# Altium footprint library Diodes_imp.PcbLib: 57 footprints (part 3 of 4)
Each footprint in its own frame and in the unit in brackets; x right, y up, seen from the top. Pads: shape width x height; smd on the part's side, far side on the other; paste and mask are expansions set on the pad; w line width, h text height; cw(c..) or ccw(c..) is an arc to the next point about the centre after c.
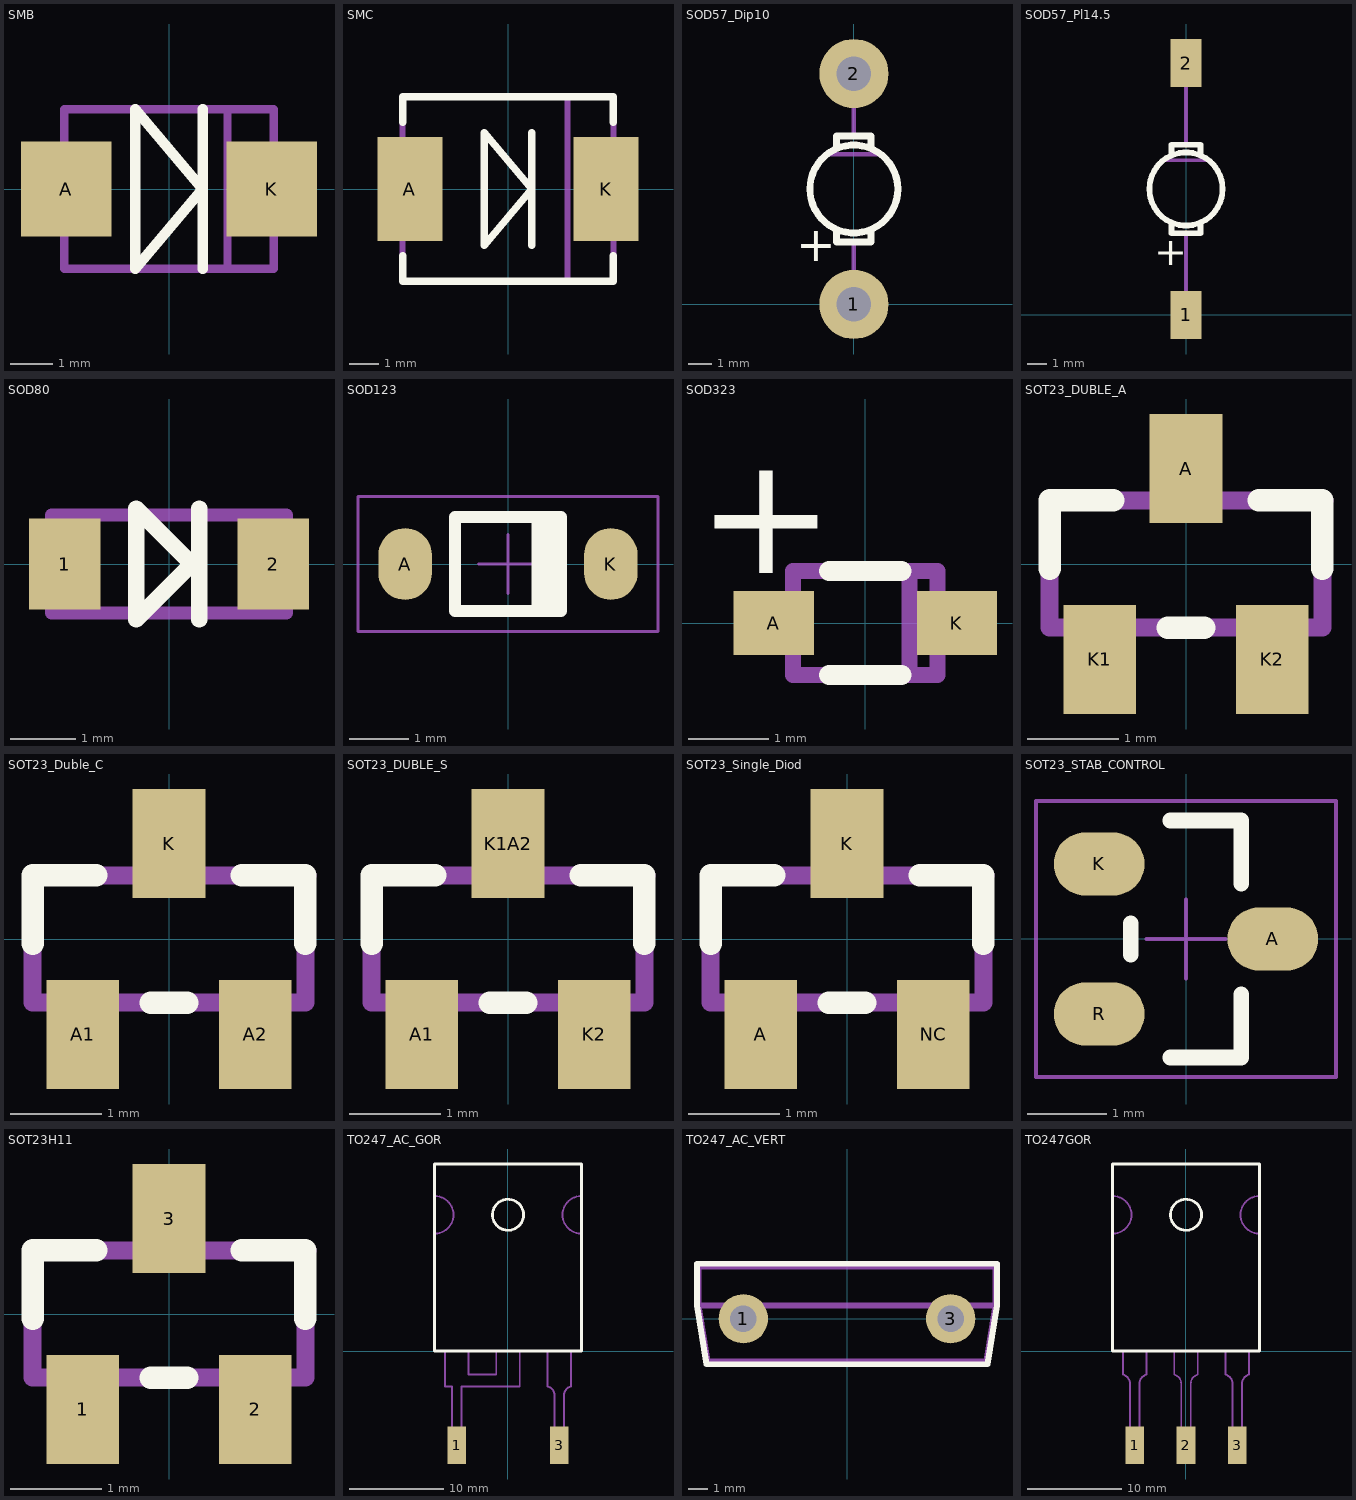
[diagram p2: the footprints below, top view; thin cyan lines are the x and y axes]

## SMB [mm]
height 2.44
pads (2):
  rect 2.16x2.26 smd: A(-2.45,0) K(2.45,0)
Top Overlay:
  lines w0.25: 0.8,-1.9 0.8,1.9 ; -0.8,-1.9 0.8,0 -0.8,1.9 -0.8,-1.9
Mechanical 1:
  lines w0.2: -2.5,-1.016 -3,-1.016 -3,1.016 -2.5,1.016 ; 1.397,-1.778 1.397,1.778 ; 2.5,-1.016 3,-1.016 3,1.016 2.5,1.016 ; -2.5,-1.9 2.5,-1.9 2.5,1.9 -2.5,1.9 -2.5,-1.9
  text "+" at -1.238,0.008 h1.5
  text ".Designator" at -0.248,2.928 h1.5
3D body "SMB.stp": height 2.4, standoff 0, extent -3,-1.9 3,1.91

## SMC [mm]
height 2.62
pads (2):
  rect 2.2x3.5 smd: A(-3.3,0) K(3.3,0)
Top Overlay:
  lines w0.25: -3.55,-2.25 -3.55,-3.1 3.55,-3.1 3.55,-2.25 ; -3.55,2.25 -3.55,3.1 3.55,3.1 3.55,2.25 ; 0.8,-1.9 0.8,1.9 ; -0.8,-1.9 -0.8,1.9 0.8,0 -0.8,-1.9
Mechanical 1:
  lines w0.2: -3.55,-1.55 -4.05,-1.55 -4.05,1.55 -3.55,1.55 ; 1.996,3.1 2,-3.1 ; 3.55,-1.55 4.05,-1.55 4.05,1.55 3.55,1.55 ; -3.55,-3.1 -3.55,3.1 3.55,3.1 3.55,-3.1 -3.55,-3.1
  text ".Designator" at -0.748,0.128 h1.5
  text "+" at -1.988,0.008 h1.5
3D body "SMC.stp": height 2.62, standoff 0, extent -4.05,-3.1 4.08,3.12

## SOD57_Dip10 [mm]
height 3.81
pads (2):
  round 3 hole 1.5: 1(0,0) 2(0,10)
Top Overlay:
  circle w0.3: c0,5 r1.905
  lines w0.3: -0.75,3.25 -0.75,2.7 0.75,2.7 0.75,3.25 ; -0.75,6.75 -0.75,7.3 0.75,7.3 0.75,6.75
  text "+" at -2.5,1.875 h1.5
Mechanical 1:
  circle w0.2: c0,5 r1.905
  lines w0.2: -1.15,6.5 1.15,6.5 ; -0.75,3.25 -0.75,2.7 0.75,2.7 0.75,3.25 ; -0.75,6.75 -0.75,7.3 0.75,7.3 0.75,6.75 ; 0,0 0,2.7 ; 0,7.3 0,10
  text "+" at -0.3,3.35 h1.5
  text ".Designator" at -2.4,3.25 h1.5
3D body "SOD57_Dip10.stp": height 3.81, standoff -3, extent -1.905,-0.404 1.89,10.404

## SOD57_Pl14.5 [mm]
height 3.81
pads (2):
  rect 1.6x2.5 smd: 1(0,0) 2(0,13.125)
Top Overlay:
  circle w0.3: c0,6.562 r1.905
  lines w0.3: -0.75,4.812 -0.75,4.262 0.75,4.262 0.75,4.812 ; -0.75,8.312 -0.75,8.862 0.75,8.862 0.75,8.312
  text "+" at -1.65,2.587 h1.5
Mechanical 1:
  circle w0.2: c0,6.562 r1.905
  lines w0.2: -1.15,8.062 1.15,8.062 ; -0.75,4.812 -0.75,4.262 0.75,4.262 0.75,4.812 ; -0.75,8.312 -0.75,8.862 0.75,8.862 0.75,8.312 ; 0,-0.688 0,4.312 ; 0,8.812 0,13.812
  text "+" at -0.3,4.912 h1.5
  text ".Designator" at -2.65,4.462 h1.5
3D body "SOD57_Pl14.5.stp": height 3.81, standoff 0, extent -1.895,-0.688 1.9,13.812

## SOD80 [mm]
height 1.5
pads (2):
  rect 1.1x1.4 smd: 1(-1.6,0) 2(1.6,0)
Top Overlay:
  lines w0.25: 0.462,-0.85 0.462,0.85 ; 0.35,0 0.45,0 0.35,0 ; 0.35,0 -0.5,0.85 -0.5,-0.85 0.35,0
Mechanical 1:
  lines w0.2: -1.8,-0.75 1.8,-0.75 1.8,0.75 -1.8,0.75 -1.8,-0.75
  text "+" at -1.4,-0.5 h1.5
  text ".Designator" at -1,1.6 h1.5
3D body "SOD80.stp": height 1.5, standoff 0, extent -1.8,-0.75 1.8,0.747

## SOD123 [mm]
height 1
pads (2):
  oval 0.91x1.22 smd mask+0.1: A(-1.75,0) K(1.75,0)
Top Overlay:
  rectangle: 0.4,-0.8 0.9,0.8
  lines w0.2: -0.9,-0.8 0.9,-0.8 0.9,0.8 -0.9,0.8 -0.9,-0.8
Mechanical 15:
  lines w0.05: -0.5,0 0.5,0 ; 0,-0.5 0,0.5 ; -2.55,-1.15 -2.55,1.15 2.55,1.15 2.55,-1.15 -2.55,-1.15
3D body "SOD123.STEP": height 1.19, standoff 0.02, extent -1.949,-0.9 1.949,0.9

## SOD323 [mm]
height 1.1
pads (2):
  rect 1x0.8 smd: A(-1.143,0) K(1.143,0)
Top Overlay:
  lines w0.25: -0.45,-0.65 0.45,-0.65 ; -0.45,0.65 0.45,0.65
  text "+" at -2.1,0.625 h1.5
Mechanical 1:
  lines w0.2: -0.9,-0.2 -1.35,-0.2 -1.35,0.2 -0.9,0.2 ; 0.55,-0.65 0.55,0.65 ; 0.905,-0.2 1.35,-0.2 1.35,0.2 0.905,0.2 ; -0.9,-0.65 0.9,-0.65 0.9,0.65 -0.9,0.65 -0.9,-0.65
  text "+" at -1.8,0.563 h1.5
3D body "SOD323.stp": height 1.1, standoff 0, extent -1.35,-0.675 1.35,0.675

## SOT23_DUBLE_A [mm]
height 1.1
pads (3):
  rect 0.8x1.2 smd: A(0,1.05) K1(-0.95,-1.05) K2(0.95,-1.05)
Top Overlay:
  lines w0.25: -1.5,-0.05 -1.5,0.7 -0.8,0.7 ; -0.2,-0.7 0.2,-0.7 ; 0.8,0.7 1.5,0.7 1.5,-0.05
Mechanical 1:
  lines w0.2: -0.95,-1.3 -0.95,-0.7 ; 0.02,0.7 0.02,1.3 ; 0.95,-1.3 0.95,-0.7 ; 1.5,0.7 1.5,-0.7 -1.5,-0.7 -1.5,0.7 1.52,0.7
  text "2" at 1.7,-1.5 h1.5
  text "1" at -2.1,-1.6 h1.5
  text "3" at -1.2,1 h1.5
  text ".Designator" at -0.448,2.278 h1.5
3D body "SOT23h11.stp": height 1.1, standoff 0, extent -1.48,-1.25 1.52,1.25

## SOT23_Duble_C [mm]
height 1.1
pads (3):
  rect 0.8x1.2 smd: A1(-0.95,-1.05) A2(0.95,-1.05) K(0,1.05)
Top Overlay:
  lines w0.25: -1.5,-0.05 -1.5,0.7 -0.8,0.7 ; -0.2,-0.7 0.2,-0.7 ; 0.8,0.7 1.5,0.7 1.5,-0.05
Mechanical 1:
  lines w0.2: -0.95,-1.3 -0.95,-0.7 ; 0.02,0.7 0.02,1.3 ; 0.95,-1.3 0.95,-0.7 ; 1.5,0.7 1.5,-0.7 -1.5,-0.7 -1.5,0.7 1.52,0.7
  text "2" at 1.7,-1.5 h1.5
  text "1" at -2.1,-1.6 h1.5
  text "3" at -1.2,1 h1.5
  text ".Designator" at -0.448,2.278 h1.5
3D body "SOT23h11.stp": height 1.1, standoff 0, extent -1.48,-1.25 1.52,1.25

## SOT23_DUBLE_S [mm]
height 1.1
pads (3):
  rect 0.8x1.2 smd: A1(-0.95,-1.05) K1A2(0,1.05) K2(0.95,-1.05)
Top Overlay:
  lines w0.25: -1.5,-0.05 -1.5,0.7 -0.8,0.7 ; -0.2,-0.7 0.2,-0.7 ; 0.8,0.7 1.5,0.7 1.5,-0.05
Mechanical 1:
  lines w0.2: -0.95,-1.3 -0.95,-0.7 ; 0.02,0.7 0.02,1.3 ; 0.95,-1.3 0.95,-0.7 ; 1.5,0.7 1.5,-0.7 -1.5,-0.7 -1.5,0.7 1.52,0.7
  text ".Designator" at -0.448,2.278 h1.5
  text "3" at -1.2,1 h1.5
  text "1" at -2.1,-1.6 h1.5
  text "2" at 1.7,-1.5 h1.5
3D body "SOT23h11.stp": height 1.1, standoff 0, extent -1.48,-1.25 1.52,1.25

## SOT23_Single_Diod [mm]
height 1.1
pads (3):
  rect 0.8x1.2 smd: A(-0.95,-1.05) K(0,1.05) NC(0.95,-1.05)
Top Overlay:
  lines w0.25: -1.5,-0.05 -1.5,0.7 -0.8,0.7 ; -0.2,-0.7 0.2,-0.7 ; 0.8,0.7 1.5,0.7 1.5,-0.05
Mechanical 1:
  lines w0.2: -0.95,-1.3 -0.95,-0.7 ; 0.02,0.7 0.02,1.3 ; 0.95,-1.3 0.95,-0.7 ; 1.5,0.7 1.5,-0.7 -1.5,-0.7 -1.5,0.7 1.52,0.7
  text "2" at 1.7,-1.5 h1.5
  text "1" at -2.1,-1.6 h1.5
  text "3" at -1.2,1 h1.5
  text ".Designator" at -0.448,2.278 h1.5
3D body "SOT23h11.stp": height 1.1, standoff 0, extent -1.48,-1.25 1.52,1.25

## SOT23_STAB_CONTROL [mm]
pads (3):
  oval 1.15x0.8 smd mask+0.1: A(1.1,0) K(-1.1,0.95) R(-1.1,-0.95)
Top Overlay:
  lines w0.2: -0.7,-0.2 -0.7,0.2 ; -0.2,-1.5 0.7,-1.5 0.7,-0.7 ; -0.2,1.5 0.7,1.5 0.7,0.7
Mechanical 15:
  lines w0.05: -0.5,0 0.5,0 ; 0,-0.5 0,0.5 ; -1.9,-1.75 -1.9,1.75 1.9,1.75 1.9,-1.75 -1.9,-1.75
3D body "User Library-sot23-1.step": height 1, standoff 0, extent -1.163,-1.46 1.177,1.46

## SOT23H11 [mm]
height 1.1
pads (3):
  rect 0.8x1.2 smd: 1(-0.95,-1.05) 2(0.95,-1.05) 3(0,1.05)
Top Overlay:
  lines w0.25: -1.5,-0.05 -1.5,0.7 -0.8,0.7 ; -0.2,-0.7 0.2,-0.7 ; 0.8,0.7 1.5,0.7 1.5,-0.05
Mechanical 1:
  lines w0.2: -0.95,-1.3 -0.95,-0.7 ; 0.02,0.7 0.02,1.3 ; 0.95,-1.3 0.95,-0.7 ; 1.5,0.7 1.5,-0.7 -1.5,-0.7 -1.5,0.7 1.52,0.7
  text ".Designator" at -0.448,2.278 h1.5
  text "3" at -1.2,1 h1.5
  text "1" at -2.1,-1.6 h1.5
  text "2" at 1.7,-1.5 h1.5
3D body "SOT23h11.stp": height 1.1, standoff 0, extent -1.48,-1.25 1.52,1.25

## TO247_AC_GOR [mm]
height 5
pads (2):
  rect 2x4 smd: 1(-5.45,-10) 3(5.45,-10)
Top Overlay:
  circle w0.3: c0,14.5 r1.65
  lines w0.3: -7.8,0 7.8,0 7.8,19.9 -7.8,19.9 -7.8,0
Mechanical 1:
  circle w0.2: c0,14.5 r1.65
  lines w0.2: -7.8,12.496 ccw(c-7.8,14.496) -7.506,12.517 ccw(c-7.8,14.496) -7.506,16.474 ccw(c-7.8,14.496) -7.8,16.496 ; -6.7,0 -6.7,-3.75 -5.95,-3.75 -5.95,-11 -4.95,-11 -4.95,-3.75 1.25,-3.75 1.25,0 ; -4.2,0 -4.2,-2.5 -1.25,-2.5 -1.25,0 ; 4.2,0 4.2,-3.75 cw(c3.95,-4.718) 4.95,-4.718 4.95,-11 5.95,-11 5.95,-4.718 cw(c6.95,-4.718) 6.7,-3.75 6.7,0 ; 7.8,12.496 cw(c7.8,14.496) 7.506,12.517 cw(c7.8,14.496) 7.506,16.474 cw(c7.8,14.496) 7.8,16.496 ; -7.8,0 -7.8,19.9 -4.592,19.9 7.8,19.9 7.8,0 -7.8,0
  text ".Designator" at -2.2,4.2 h1.5
  text ".Comment" at -2.3,10 h1.5
  text "1" at -6,1 h1.5
  text "3" at 5,1 h1.5
3D body "TO247_AC_GOR.STEP": height 5, standoff 0, extent -7.8,-11 7.8,20

## TO247_AC_VERT [mm]
height 30
pads (2):
  round 2.6 hole 1.4: 1(-5.46,0) 3(5.46,0)
Top Overlay:
  lines w0.3: -7.9,0.7 -7.4,-2.4 7.4,-2.4 7.9,0.7 7.9,2.9 -7.9,2.9 -7.9,0.7
Mechanical 1:
  lines w0.3: -7.347,-2.25 7.3,-2.25 ; -7.347,-2.242 -7.8,0.7 ; 7.347,-2.242 7.8,0.7 ; -7.8,0.7 -7.8,2.75 7.8,2.75 7.8,0.7 ; -7.8,0.7 7.8,0.7
  text ".Designator" at -1.1,3.6 h1.5
  text ".Comment" at -2.7,-3.9 h1.5
  text "1" at -5.85,-1.55 h1.5
  text "3" at 5.15,-1.55 h1.5
3D body "TO247_AC_VERT.STEP": height 30.5, standoff -3, extent -7.8,-2.25 7.8,2.75

## TO247GOR [mm]
height 5
pads (3):
  rect 2x4 smd: 1(-5.45,-10) 2(0,-10) 3(5.45,-10)
Top Overlay:
  circle w0.3: c0,14.5 r1.65
  lines w0.3: -7.8,0 7.8,0 7.8,19.9 -7.8,19.9 -7.8,0
Mechanical 1:
  circle w0.2: c0,14.5 r1.65
  lines w0.2: -7.8,12.496 ccw(c-7.8,14.496) -7.506,12.517 ccw(c-7.8,14.496) -7.506,16.474 ccw(c-7.8,14.496) -7.8,16.496 ; -6.7,0 -6.7,-2.5 cw(c-6.95,-3.468) -5.95,-3.468 -5.95,-11 -4.95,-11 -4.95,-3.468 cw(c-3.95,-3.468) -4.2,-2.5 -4.2,0 ; -1.25,0 -1.25,-2.5 cw(c-1.5,-3.468) -0.5,-3.468 -0.5,-11 0.5,-11 0.5,-3.468 cw(c1.5,-3.468) 1.25,-2.5 1.25,0 ; 4.2,0 4.2,-2.5 cw(c3.95,-3.468) 4.95,-3.468 4.95,-11 5.95,-11 5.95,-3.468 cw(c6.95,-3.468) 6.7,-2.5 6.7,0 ; 7.8,12.496 cw(c7.8,14.496) 7.506,12.517 cw(c7.8,14.496) 7.506,16.474 cw(c7.8,14.496) 7.8,16.496 ; -7.8,0 -7.8,19.9 -4.592,19.9 7.8,19.9 7.8,0 -7.8,0
  text ".Designator" at -2.2,4.2 h1.5
  text ".Comment" at -2.3,10 h1.5
  text "1" at -6,1 h1.5
  text "2" at -0.25,1 h1.5
  text "3" at 5,1 h1.5
3D body "TO247GOR.STEP": height 5, standoff 0, extent -7.8,-11 7.8,20